# EAGLE library part IP4220CZ6 (library lib_stankus)
NXP IP4220CZ6 TVS
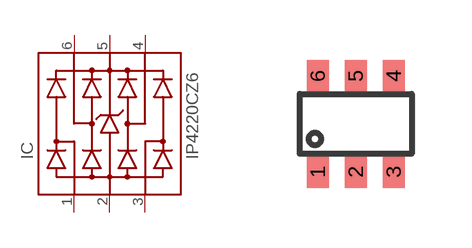
[diagram p21: symbol with the pads of SOT457; footprint SOT457]

Designator prefix IC

## IP4220CZ6-SOT457  [SOT457]
1  1  pas
2  2  pas
3  3  pas
4  4  pas
5  5  pas
6  6  pas

## Footprint SOT457 (pad centres in mm)
SOT457
smd 0.55 x 0.8: 1 -0.95,-1.2; 2 0,-1.2; 3 0.95,-1.2; 4 0.95,1.2; 5 0,1.2; 6 -0.95,1.2